# Altium schematic symbol library 0419.SCHLIB: 50 symbols
Pins are listed as number, name and electrical type; pins without a type are passive.

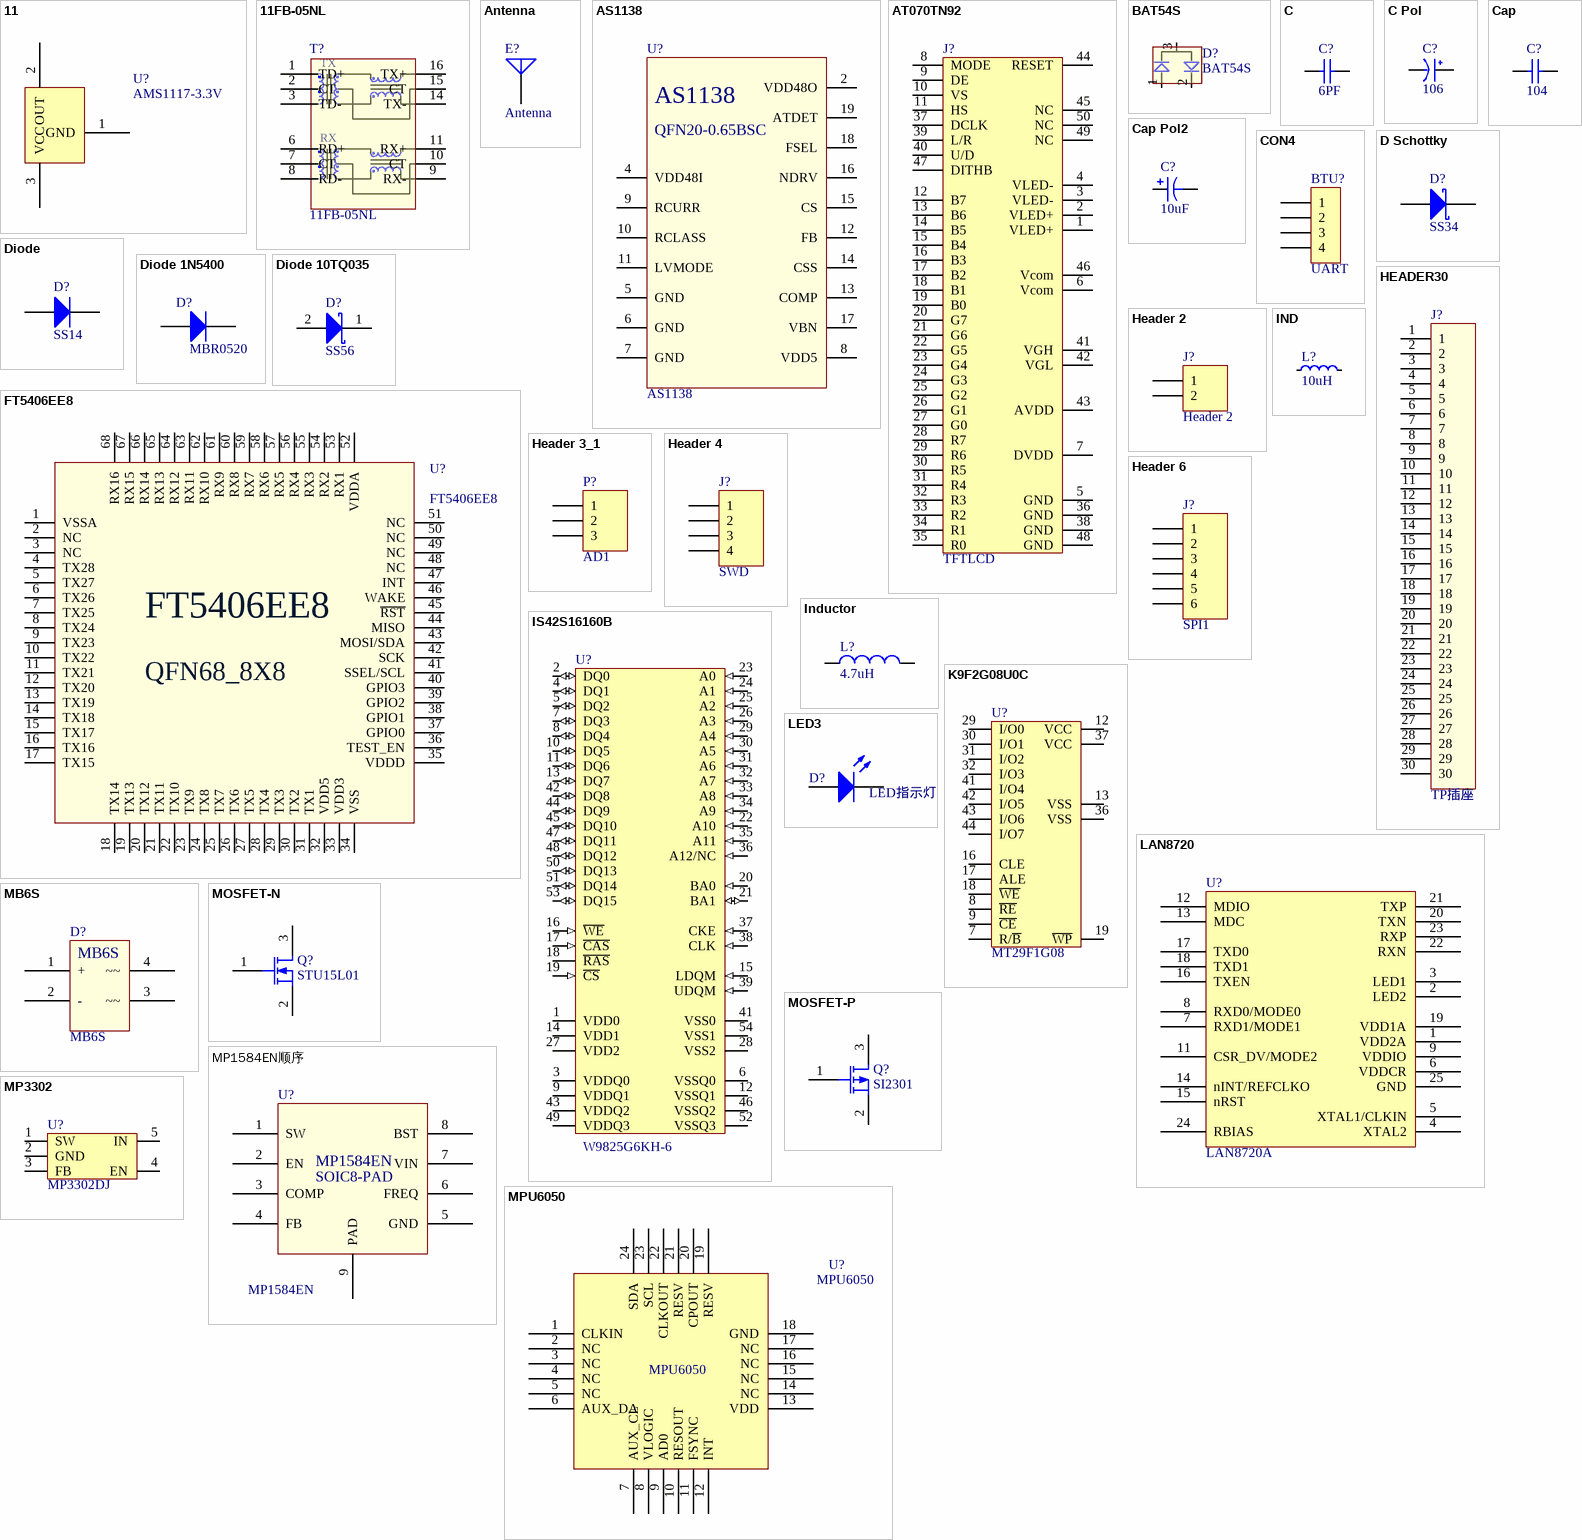
[diagram p0: symbols 11 to MPU6050]

## 11
designator U?, comment AMS1117-3.3V
footprint SOT-223
pins: 1 GND, 2 OUT, 3 VCC

## 11FB-05NL
designator T?
footprint SOIC16 (SOIC, 16-Leads, Body 10.30x7.50mm, Pitch 1.27mm, IPC Medium Density)
pins: 1 TD+, 2 CT, 3 TD-, 6 RD+, 7 CT, 8 RD-, 9 RX-, 10 CT, 11 RX+, 14 TX-, 15 CT, 16 TX+
text: TX; RX

## Antenna
designator E?
Generic Antenna; Published: 24-Mar-1999; LatestRevisionDate: 17-Jul-2002; LatestRevisionNote: Re-released for DXP Platform.; PackageReference: PIN1; Publisher: Altium Limited
footprint ANT2.4G2
pins: 1 A

## AS1138
designator U?
footprint QFN20-0.65BSC-PAD
pins: 2 VDD48O, 4 VDD48I, 5 GND, 6 GND, 7 GND, 8 VDD5, 9 RCURR, 10 RCLASS, 11 LVMODE, 12 FB, 13 COMP, 14 CSS, 15 CS, 16 NDRV, 17 VBN, 18 FSEL, 19 ATDET
text: QFN20-0.65BSC

## AT070TN92
designator J?, comment TFTLCD
7' TFTLCD
footprint FPC-TOP50
pins: 1 VLED+, 2 VLED+, 3 VLED-, 4 VLED-, 5 GND, 6 Vcom, 7 DVDD, 8 MODE, 9 DE, 10 VS, 11 HS, 12 B7, 13 B6, 14 B5, 15 B4, 16 B3, 17 B2, 18 B1, 19 B0, 20 G7, 21 G6, 22 G5, 23 G4, 24 G3, 25 G2, 26 G1, 27 G0, 28 R7, 29 R6, 30 R5, 31 R4, 32 R3, 33 R2, 34 R1, 35 R0, 36 GND, 37 DCLK, 38 GND, 39 L/R, 40 U/D, 41 VGH, 42 VGL, 43 AVDD, 44 RESET, 45 NC, 46 Vcom, 47 DITHB, 48 GND, 49 NC, 50 NC
2 alternate drawings of the same symbol

## BAT54S
designator D?
双肖特基二极管
footprint SOT-23 (SOT-23; 3 Leads; Body 3.0 x 2.5 mm, inc. leads (LxW max))
pins: 1, 2, 3

## C
designator C?, comment 6PF
电容; Published: 8-Jun-2000; LatestRevisionDate: 17-Jul-2002; LatestRevisionNote: Re-released for DXP Platform.; PackageReference: RAD-0.3; Publisher: Altium Limited; PackageDescription: Radial Cap, Thru-Hole; 2 Leads; 0.3 in Pin Spacing
footprint 0603T
pins: 1, 2

## C Pol
designator C?, comment 106
footprint 0603T
pins: 1 VCC, 2 GND

## Cap
designator C?, comment 104
Capacitor; Published: 8-Jun-2000; LatestRevisionDate: 17-Jul-2002; LatestRevisionNote: Re-released for DXP Platform.; PackageReference: RAD-0.3; Publisher: Altium Limited; PackageDescription: Radial Cap, Thru-Hole; 2 Leads; 0.3 in Pin Spacing; Value: 104
simulation model CAP (Capacitor)
signal-integrity model Cap
footprint 0603T
pins: 1, 2

## Cap Pol2
designator C?, comment 10uF
Polarized Capacitor (Axial); Published: 8-Jun-2000; LatestRevisionDate: 17-Jul-2002; LatestRevisionNote: Re-released for DXP Platform.; PackageReference: POLAR0.8; Publisher: Altium Limited; PackageDescription: Polarized Capacitor; 2 Leads; Value: 10uF
simulation model CAP (Capacitor)
signal-integrity model Cap Pol
footprint CAP-SIP
pins: 1, 2
1 alternate drawing of the same symbol

## CON4
designator BTU?, comment UART
Connector
footprint HDR1X4 (Connector; Header; 4 Position)
pins: 1, 2, 3, 4

## D Schottky
designator D?, comment SS34
Schottky Diode; Published: 8-Jun-2000; LatestRevisionDate: 17-Jul-2002; LatestRevisionNote: Re-released for DXP Platform.; PackageReference: SMB; Publisher: Altium Limited; PackageDescription: DO-214-AA/SMB; 2 C-Bend Leads; Body 5.3 x 3.6 mm, inc. leads (LxW); Code_JEDEC: DO-214-AA
footprint SMB (DO-214-AA/SMB; 2 C-Bend Leads; Body 5.3 x 3.6 mm, inc. leads (LxW))
simulation model SKYDIODE (Diode)
signal-integrity model D Schottky
pins: 1 A, 2 K

## Diode
designator D?, comment SS14
Default Diode; Published: 8-Jun-2000; LatestRevisionDate: 17-Jul-2002; LatestRevisionNote: Re-released for DXP Platform.; PackageVersion: Sep-1996; PackageReference: SMC; Publisher: Altium Limited; PackageDescription: DO-214-AB/SMC; 2 C-Bend Leads; Body 7.9 x 5.9 mm, inc. leads (LxW); Code_JEDEC: DO-214-AB
footprint SMC (DO-214-AB/SMC; 2 C-Bend Leads; Body 7.9 x 5.9 mm, inc. leads (LxW))
simulation model DIODE (Diode)
signal-integrity model Diode
pins: 1 A, 2 K

## Diode 1N5400
designator D?, comment MBR0520
3 Amp General Purpose Rectifier; Published: 8-Jun-2000; LatestRevisionDate: 17-Jul-2002; LatestRevisionNote: Re-released for DXP Platform.; DatasheetVersion: 1998; PackageVersion: Aug-1999; PackageReference: DO-201AD; Publisher: Altium Limited; PackageDescription: Diode, Axial; Body 9.5 x 5.6 mm (LxDia. max), Lead Dia. 1.32 mm (max); ComponentLink1Description: Manufacturer Link; ComponentLink1URL: http://www.fairchildsemi.com/; ComponentLink2Description: Datasheet; ComponentLink2URL: http://www.fairchildsemi.com/ds/1N%2F1N5400.pdf
footprint SOD-123
simulation model 1N5400 (DIODE)
signal-integrity model 1N5400
pins: 1 A, 2 K

## Diode 10TQ035
designator D?, comment SS56
Schottky Rectifier; Note: Terminal 2 is the TAB and is electrically connected to the cathode; Published: 8-Jun-2000; LatestRevisionDate: 17-Jul-2002; LatestRevisionNote: Re-released for DXP Platform.; DatasheetVersion: PD-2.057B; PackageVersion: Feb-1998; PackageReference: TO-220AC; Publisher: Altium Limited; PackageDescription: TO, Thru-Hole, Vertical, Heatsink Mounted; 3 In-Line Leads (1 Absent); Pitch 2.54 mm; ComponentLink1Description: Manufacturer Link; ComponentLink1URL: http://www.irf.com/; ComponentLink2Description: Datasheet; ComponentLink2URL: http://www.irf.com/product-info/datasheets/data/10tq.pdf
footprint SMC (DO-214-AB/SMC; 2 C-Bend Leads; Body 7.9 x 5.9 mm, inc. leads (LxW))
simulation model 10TQ035 (DIODE)
pins: 1 K, 2 A

## FT5406EE8
designator U?
footprint QFN68-0.4mm
pins: 1 VSSA, 2 NC, 3 NC, 4 TX28, 5 TX27, 6 TX26, 7 TX25, 8 TX24, 9 TX23, 10 TX22, 11 TX21, 12 TX20, 13 TX19, 14 TX18, 15 TX17, 16 TX16, 17 TX15, 18 TX14, 19 TX13, 20 TX12, 21 TX11, 22 TX10, 23 TX9, 24 TX8, 25 TX7, 26 TX6, 27 TX5, 28 TX4, 29 TX3, 30 TX2, 31 TX1, 32 VDD5, 33 VDD3, 34 VSS, 35 VDDD, 36 TEST_EN, 37 GPIO0, 38 GPIO1, 39 GPIO2, 40 GPIO3, 41 SSEL/SCL, 42 SCK, 43 MOSI/SDA, 44 MISO, 45 ~{RST}, 46 WAKE, 47 INT, 48 NC, 49 NC, 50 NC, 51 NC, 52 VDDA, 53 RX1, 54 RX2, 55 RX3, 56 RX4, 57 RX5, 58 RX6, 59 RX7, 60 RX8, 61 RX9, 62 RX10, 63 RX11, 64 RX12, 65 RX13, 66 RX14, 67 RX15, 68 RX16
text: QFN68_8X8

## HEADER30
designator J?, comment TP插座
footprint FPC-TOP30
pins: 1, 2, 3, 4, 5, 6, 7, 8, 9, 10, 11, 12, 13, 14, 15, 16, 17, 18, 19, 20, 21, 22, 23, 24, 25, 26, 27, 28, 29, 30

## Header 2
designator J?
Header, 2-Pin; LatestRevisionDate: 17-Jul-2002; LatestRevisionNote: Re-released for DXP Platform.; Publisher: Altium Limited
footprint HDR1X2
signal-integrity model Connector
footprint HDR1X2 (Connector; Header; 2 Position)
pins: 1, 2

## Header 3_1
designator P?, comment AD1
Header, 3-Pin; LatestRevisionDate: 17-Jul-2002; LatestRevisionNote: Re-released for DXP Platform.; Publisher: Altium Limited
footprint HDR1X3 (Connector; Header; 3 Position)
signal-integrity model Connector
pins: 1, 2, 3

## Header 4
designator J?, comment SWD
Header, 4-Pin; LatestRevisionDate: 17-Jul-2002; LatestRevisionNote: Re-released for DXP Platform.; Publisher: Altium Limited
footprint HDR1X4 (Connector; Header; 4 Position)
signal-integrity model Connector
pins: 1, 2, 3, 4

## Header 6
designator J?, comment SPI1
Header, 6-Pin; LatestRevisionDate: 17-Jul-2002; LatestRevisionNote: Re-released for DXP Platform.; Publisher: Altium Limited
footprint HDR1X6 (Connector; Header; 6 Position)
signal-integrity model Connector
pins: 1, 2, 3, 4, 5, 6

## IND
designator L?, comment 10uH
Chip inductor, IDC,min = 50 mA, ±20%; Part Number: L0603-10μ; Manufacturer: Taiyo Yuden; Manufacturer Part Number: LBMF1608T100K; 2nd source part number: 178-6105; Note: LBMF1608T100K 10μH 80mA 0603; Artikkelnr Noca: 33029314; Artikkelnr Simpro: N.A.; Datasheet: http://www.yuden.co.jp/ut/product/pdf/elb2_e.pdf; LatestRevisionDate: 2012-09-19; Pin Count: 2; Publisher: Nordic Semiconductor; Published: 2010-02-24; Value: 10uH; Supplier: Digi-Key; Supplier part number: 587-1714-1-ND; 2nd source Supplier: Farnell; Footprint Doc: 0603
footprint CL-0805
pins: 1, 2

## Inductor
designator L?  value 4.7uH  (hidden comment: Inductor)
Code_IEC: 1005; Published: 8-Jun-2000; LatestRevisionDate: 29-May-2009; LatestRevisionNote: IPC-7351 Footprint Added.; PackageReference: 0402-A; Publisher: Altium Limited; PackageDescription: Chip Inductor; Code_JEITA: 0402
footprint L10*10
pins: 1, 2

## IS42S16160B
designator U?, comment W9825G6KH-6
32MB SDRAM
footprint TSOP54
pins: 1 VDD0 (power), 2 DQ0 (io), 3 VDDQ0 (power), 4 DQ1 (io), 5 DQ2 (io), 6 VSSQ0 (power), 7 DQ3 (io), 8 DQ4 (io), 9 VDDQ1 (power), 10 DQ5 (io), 11 DQ6 (io), 12 VSSQ1 (power), 13 DQ7 (io), 14 VDD1 (power), 15 LDQM (in), 16 ~{WE} (in), 17 ~{CAS} (in), 18 ~{RAS}, 19 ~{CS} (in), 20 BA0 (in), 21 BA1 (io), 22 A10 (in), 23 A0 (in), 24 A1 (in), 25 A2 (in), 26 A3 (in), 27 VDD2 (power), 28 VSS2 (power), 29 A4 (in), 30 A5 (in), 31 A6 (in), 32 A7 (in), 33 A8 (in), 34 A9 (in), 35 A11 (in), 36 A12/NC (in), 37 CKE (in), 38 CLK (in), 39 UDQM (in), 41 VSS0 (power), 42 DQ8 (io), 43 VDDQ2 (power), 44 DQ9 (io), 45 DQ10 (io), 46 VSSQ2 (power), 47 DQ11 (io), 48 DQ12 (io), 49 VDDQ3 (power), 50 DQ13 (io), 51 DQ14 (io), 52 VSSQ3 (power), 53 DQ15 (io), 54 VSS1 (power)
2 alternate drawings of the same symbol

## K9F2G08U0C
designator U?, comment MT29F1G08
256MB NAND FLASH
footprint TSOP48
pins: 7 R/~{B}, 8 ~{RE}, 9 ~{CE}, 12 VCC, 13 VSS, 16 CLE, 17 ALE, 18 ~{WE}, 19 ~{WP}, 29 I/O0, 30 I/O1, 31 I/O2, 32 I/O3, 36 VSS, 37 VCC, 41 I/O4, 42 I/O5, 43 I/O6, 44 I/O7

## LAN8720
designator U?, comment LAN8720A
footprint QFN24
pins: 1 VDD2A, 2 LED2, 3 LED1, 4 XTAL2, 5 XTAL1/CLKIN, 6 VDDCR, 7 RXD1/MODE1, 8 RXD0/MODE0, 9 VDDIO, 11 CSR_DV/MODE2, 12 MDIO, 13 MDC, 14 nINT/REFCLKO, 15 nRST, 16 TXEN, 17 TXD0, 18 TXD1, 19 VDD1A, 20 TXN, 21 TXP, 22 RXN, 23 RXP, 24 RBIAS, 25 GND

## LED3
designator D?, comment LED指示灯
Typical BLUE SiC LED; Published: 8-Jun-2000; LatestRevisionDate: 17-Dec-2003; LatestRevisionNote: PCB Footprint replaced.; DatasheetVersion: 16-Apr-2002; PackageVersion: 16-Apr-2002; PackageReference: 3.5X2.8X1.9; Publisher: Altium Limited; PackageDescription: SM LED; 2 C-Bend Leads; Body 3.5 x 2.8 x 1.9 mm, inc leads (LxWxH typ)
simulation model LED3 (Diode)
signal-integrity model LED
footprint 0603T
pins: 1 A, 2 K

## MB6S
designator D?
footprint SOP-4
pins: 1 +, 2 -, 3 ~~, 4 ~~

## MOSFET-N
designator Q?, comment STU15L01
N-Channel MOSFET; Published: 8-Jun-2000; LatestRevisionDate: 17-Jul-2002; LatestRevisionNote: Re-released for DXP Platform.; PackageVersion: 1995/1996; PackageReference: E3; Publisher: Altium Limited; PackageDescription: TO, Flat Index; 3 In-Line, Axial Leads; Body Dia. 4.6mm; Lead Dia. 0.5 mm (max)
footprint TO-252AA(D-PAK)
simulation model NMOS (MOSFET-N)
pins: 1 G, 2 S, 3 D

## MOSFET-P
designator Q?, comment SI2301
P-Channel MOSFET; Published: 8-Jun-2000; LatestRevisionDate: 17-Jul-2002; LatestRevisionNote: Re-released for DXP Platform.; PackageVersion: 1995/1996; PackageReference: E3; Publisher: Altium Limited; PackageDescription: TO, Flat Index; 3 In-Line, Axial Leads; Body Dia. 4.6mm; Lead Dia. 0.5 mm (max)
footprint SOT-23
simulation model PMOS (MOSFET-P)
pins: 1 G, 2 S, 3 D

## MP1584EN顺序
designator U?, comment MP1584EN
footprint SOIC8-PAD (SOIC, 8-Leads, Body 4.90x3.90mm, Pitch 1.27mm, IPC Medium Density)
pins: 1 SW, 2 EN, 3 COMP, 4 FB, 5 GND, 6 FREQ, 7 VIN, 8 BST, 9 PAD
text: SOIC8-PAD

## MP3302
designator U?, comment MP3302DJ
LCD背光IC
footprint SOT-23-5
pins: 1 SW, 2 GND, 3 FB, 4 EN, 5 IN

## MPU6050
designator U?
footprint QFN20-0.5BSC-PAD
pins: 1 CLKIN, 2 NC, 3 NC, 4 NC, 5 NC, 6 AUX_DA, 7 AUX_CL, 8 VLOGIC, 9 AD0, 10 RESOUT, 11 FSYNC, 12 INT, 13 VDD, 14 NC, 15 NC, 16 NC, 17 NC, 18 GND, 19 RESV, 20 CPOUT, 21 RESV, 22 CLKOUT, 23 SCL, 24 SDA

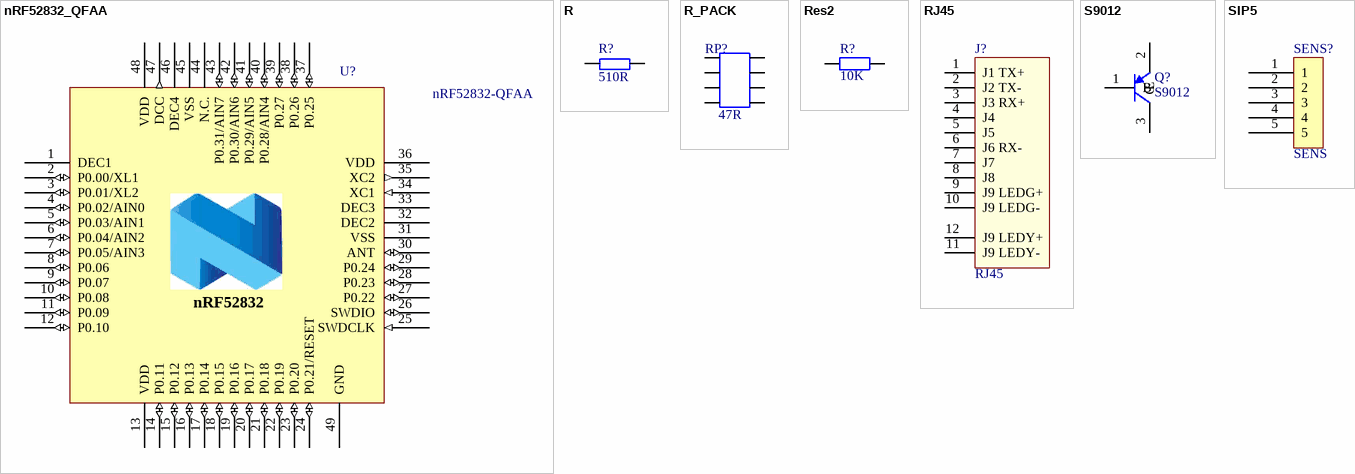
[diagram p1: symbols nRF52832_QFAA to SIP5]

## nRF52832_QFAA
designator U?, comment nRF52832-QFAA
Multi-protocol Bluetooth Low Energy, ANT and 2.4GHz proprietary system-on-chip; Manufacturer: Nordic Semiconductor; Artikkelnr Noca: N.A.; Part Number: nRF52832-QFAA; Manufacturer Part Number: nRF52832-QFAA; Datasheet: *; LatestRevisionDate: 2014-11-26; Pin Count: 48; Publisher: Nordic Semiconductor; Published: 2014-11-26; Value: nRF52832-QFAA; Note: *; Supplier: Nordic Semiconductor; Supplier part number: *; 2nd source Supplier: *; 2nd source part number: *; Footprint Doc: QFN-48; Artikkelnr Simpro: N.A.
footprint QFN48
pins: 1 DEC1 (power), 2 P0.00/XL1 (io), 3 P0.01/XL2 (io), 4 P0.02/AIN0 (io), 5 P0.03/AIN1 (io), 6 P0.04/AIN2 (io), 7 P0.05/AIN3 (io), 8 P0.06 (io), 9 P0.07 (io), 10 P0.08 (io), 11 P0.09 (io), 12 P0.10 (io), 13 VDD (power), 14 P0.11 (io), 15 P0.12 (io), 16 P0.13 (io), 17 P0.14 (io), 18 P0.15 (io), 19 P0.16 (io), 20 P0.17 (io), 21 P0.18 (io), 22 P0.19 (io), 23 P0.20 (io), 24 P0.21/RESET (io), 25 SWDCLK (in), 26 SWDIO (io), 27 P0.22 (io), 28 P0.23 (io), 29 P0.24 (io), 30 ANT (io), 31 VSS (power), 32 DEC2 (power), 33 DEC3 (power), 34 XC1 (in), 35 XC2 (out), 36 VDD (power), 37 P0.25 (io), 38 P0.26 (io), 39 P0.27 (io), 40 P0.28/AIN4 (io), 41 P0.29/AIN5 (io), 42 P0.30/AIN6 (io), 43 P0.31/AIN7 (io), 44 N.C. (power), 45 VSS (power), 46 DEC4 (power), 47 DCC (out), 48 VDD (power), 49 GND
text: nRF52832

## R
designator R?, comment 510R
footprint 0603T
pins: 1, 2

## R_PACK
designator RP?, comment 47R
排阻
footprint 8P4R_0603
pins: 1, 2, 3, 4, 5, 6, 7, 8

## Res2
designator R?, comment value 10K  (hidden comment: Res)
Resistor; Published: 8-Jun-2000; LatestRevisionDate: 17-Jul-2002; LatestRevisionNote: Re-released for DXP Platform.; PackageReference: AXIAL-0.4; Publisher: Altium Limited; PackageDescription: Axial Device, Thru-Hole; 2 Leads; 0.4 in Pin Spacing
simulation model RESISTOR (Resistor)
signal-integrity model Res
footprint 0603T
pins: 1, 2

## RJ45
designator J?
footprint RJ45
pins: 1 J1 TX+, 2 J2 TX-, 3 J3 RX+, 4 J4, 5 J5, 6 J6 RX-, 7 J7, 8 J8, 9 J9 LEDG+, 10 J9 LEDG-, 11 J9 LEDY-, 12 J9 LEDY+

## S9012
designator Q?
NPN General Purpose Amplifier; Published: 8-Jun-2000; LatestRevisionDate: 15-Jan-2003; LatestRevisionNote: PCB Footprint 'BCY-W3/D4.7' replaced; DatasheetVersion: 1997; PackageVersion: Sep-1998; PackageReference: TO-92A; Publisher: Altium Limited; PackageDescription: TO, Flat Index; 3 In-Line, Axial Leads; Body Dia. 4.5mm; Leads 0.51 x 0.48 mm (max); ComponentLink1Description: Manufacturer Link; ComponentLink1URL: http://www.fairchildsemi.com/; ComponentLink2Description: Datasheet; ComponentLink2URL: http://www.fairchildsemi.com/ds/2N%2F2N3904.pdf
footprint SOT-23
simulation model 2N3904 (NPN)
signal-integrity model 2N3904
pins: 1 B, 2 E, 3 C

## SIP5
designator SENS?, comment SENS
footprint 传感器接口
pins: 1, 2, 3, 4, 5

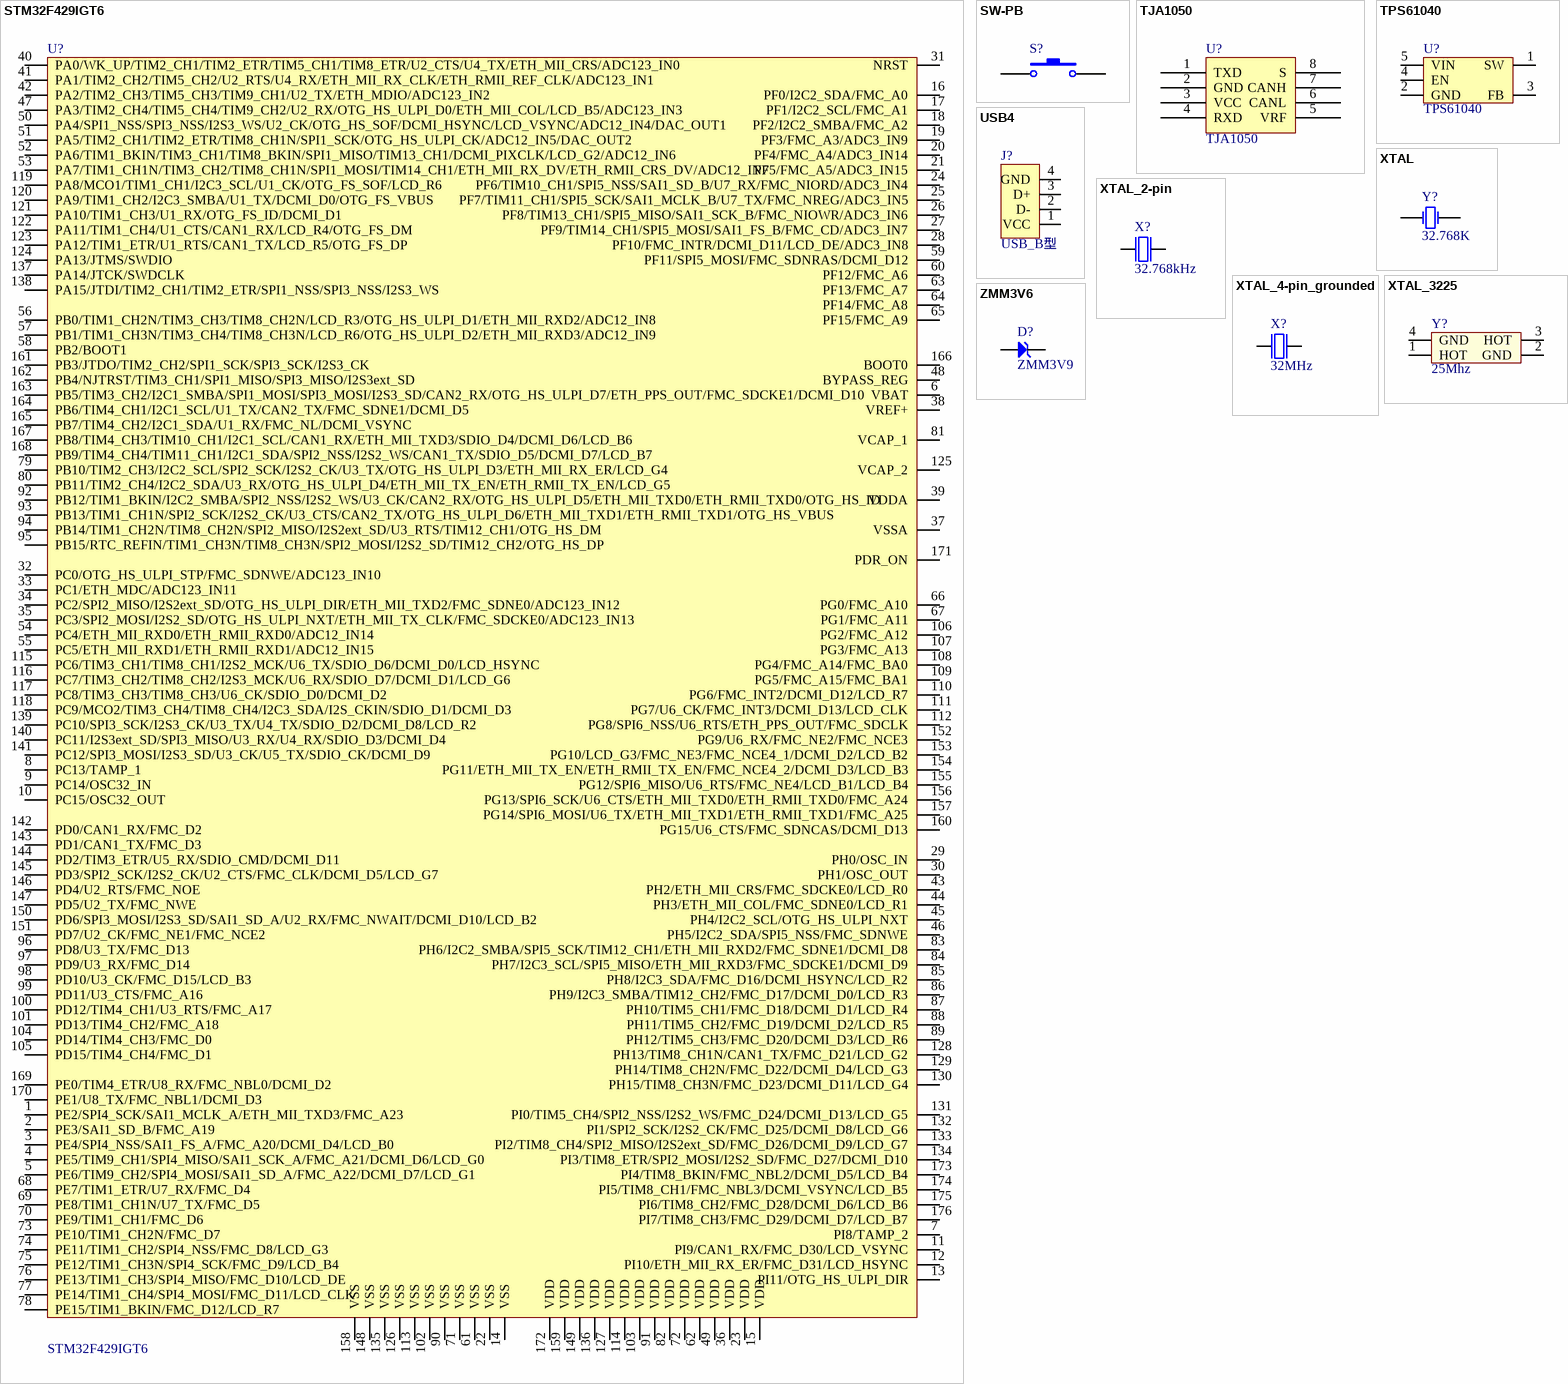
[diagram p2: symbols STM32F429IGT6 to ZMM3V6]

## STM32F429IGT6
designator U?
footprint LQFP176 (TSQFP, 176-Leads, Body 26.1x26.1mm (max), Pitch 0.50mm, IPC Medium Density)
pins: 1 PE2/SPI4_SCK/SAI1_MCLK_A/ETH_MII_TXD3/FMC_A23, 2 PE3/SAI1_SD_B/FMC_A19, 3 PE4/SPI4_NSS/SAI1_FS_A/FMC_A20/DCMI_D4/LCD_B0, 4 PE5/TIM9_CH1/SPI4_MISO/SAI1_SCK_A/FMC_A21/DCMI_D6/LCD_G0, 5 PE6/TIM9_CH2/SPI4_MOSI/SAI1_SD_A/FMC_A22/DCMI_D7/LCD_G1, 6 VBAT, 7 PI8/TAMP_2, 8 PC13/TAMP_1, 9 PC14/OSC32_IN, 10 PC15/OSC32_OUT, 11 PI9/CAN1_RX/FMC_D30/LCD_VSYNC, 12 PI10/ETH_MII_RX_ER/FMC_D31/LCD_HSYNC, 13 PI11/OTG_HS_ULPI_DIR, 14 VSS, 15 VDD, 16 PF0/I2C2_SDA/FMC_A0, 17 PF1/I2C2_SCL/FMC_A1, 18 PF2/I2C2_SMBA/FMC_A2, 19 PF3/FMC_A3/ADC3_IN9, 20 PF4/FMC_A4/ADC3_IN14, 21 PF5/FMC_A5/ADC3_IN15, 22 VSS, 23 VDD, 24 PF6/TIM10_CH1/SPI5_NSS/SAI1_SD_B/U7_RX/FMC_NIORD/ADC3_IN4, 25 PF7/TIM11_CH1/SPI5_SCK/SAI1_MCLK_B/U7_TX/FMC_NREG/ADC3_IN5, 26 PF8/TIM13_CH1/SPI5_MISO/SAI1_SCK_B/FMC_NIOWR/ADC3_IN6, 27 PF9/TIM14_CH1/SPI5_MOSI/SAI1_FS_B/FMC_CD/ADC3_IN7, 28 PF10/FMC_INTR/DCMI_D11/LCD_DE/ADC3_IN8, 29 PH0/OSC_IN, 30 PH1/OSC_OUT, 31 NRST, 32 PC0/OTG_HS_ULPI_STP/FMC_SDNWE/ADC123_IN10, 33 PC1/ETH_MDC/ADC123_IN11, 34 PC2/SPI2_MISO/I2S2ext_SD/OTG_HS_ULPI_DIR/ETH_MII_TXD2/FMC_SDNE0/ADC123_IN12, 35 PC3/SPI2_MOSI/I2S2_SD/OTG_HS_ULPI_NXT/ETH_MII_TX_CLK/FMC_SDCKE0/ADC123_IN13, 36 VDD, 37 VSSA, 38 VREF+, 39 VDDA, 40 PA0/WK_UP/TIM2_CH1/TIM2_ETR/TIM5_CH1/TIM8_ETR/U2_CTS/U4_TX/ETH_MII_CRS/ADC123_IN0, 41 PA1/TIM2_CH2/TIM5_CH2/U2_RTS/U4_RX/ETH_MII_RX_CLK/ETH_RMII_REF_CLK/ADC123_IN1, 42 PA2/TIM2_CH3/TIM5_CH3/TIM9_CH1/U2_TX/ETH_MDIO/ADC123_IN2, 43 PH2/ETH_MII_CRS/FMC_SDCKE0/LCD_R0, 44 PH3/ETH_MII_COL/FMC_SDNE0/LCD_R1, 45 PH4/I2C2_SCL/OTG_HS_ULPI_NXT, 46 PH5/I2C2_SDA/SPI5_NSS/FMC_SDNWE, 47 PA3/TIM2_CH4/TIM5_CH4/TIM9_CH2/U2_RX/OTG_HS_ULPI_D0/ETH_MII_COL/LCD_B5/ADC123_IN3, 48 BYPASS_REG, 49 VDD, 50 PA4/SPI1_NSS/SPI3_NSS/I2S3_WS/U2_CK/OTG_HS_SOF/DCMI_HSYNC/LCD_VSYNC/ADC12_IN4/DAC_OUT1, 51 PA5/TIM2_CH1/TIM2_ETR/TIM8_CH1N/SPI1_SCK/OTG_HS_ULPI_CK/ADC12_IN5/DAC_OUT2, 52 PA6/TIM1_BKIN/TIM3_CH1/TIM8_BKIN/SPI1_MISO/TIM13_CH1/DCMI_PIXCLK/LCD_G2/ADC12_IN6, 53 PA7/TIM1_CH1N/TIM3_CH2/TIM8_CH1N/SPI1_MOSI/TIM14_CH1/ETH_MII_RX_DV/ETH_RMII_CRS_DV/ADC12_IN7, 54 PC4/ETH_MII_RXD0/ETH_RMII_RXD0/ADC12_IN14, 55 PC5/ETH_MII_RXD1/ETH_RMII_RXD1/ADC12_IN15, 56 PB0/TIM1_CH2N/TIM3_CH3/TIM8_CH2N/LCD_R3/OTG_HS_ULPI_D1/ETH_MII_RXD2/ADC12_IN8, 57 PB1/TIM1_CH3N/TIM3_CH4/TIM8_CH3N/LCD_R6/OTG_HS_ULPI_D2/ETH_MII_RXD3/ADC12_IN9, 58 PB2/BOOT1, 59 PF11/SPI5_MOSI/FMC_SDNRAS/DCMI_D12, 60 PF12/FMC_A6, 61 VSS, 62 VDD, 63 PF13/FMC_A7, 64 PF14/FMC_A8, 65 PF15/FMC_A9, 66 PG0/FMC_A10, 67 PG1/FMC_A11, 68 PE7/TIM1_ETR/U7_RX/FMC_D4, 69 PE8/TIM1_CH1N/U7_TX/FMC_D5, 70 PE9/TIM1_CH1/FMC_D6, 71 VSS, 72 VDD, 73 PE10/TIM1_CH2N/FMC_D7, 74 PE11/TIM1_CH2/SPI4_NSS/FMC_D8/LCD_G3, 75 PE12/TIM1_CH3N/SPI4_SCK/FMC_D9/LCD_B4, 76 PE13/TIM1_CH3/SPI4_MISO/FMC_D10/LCD_DE, 77 PE14/TIM1_CH4/SPI4_MOSI/FMC_D11/LCD_CLK, 78 PE15/TIM1_BKIN/FMC_D12/LCD_R7, 79 PB10/TIM2_CH3/I2C2_SCL/SPI2_SCK/I2S2_CK/U3_TX/OTG_HS_ULPI_D3/ETH_MII_RX_ER/LCD_G4, 80 PB11/TIM2_CH4/I2C2_SDA/U3_RX/OTG_HS_ULPI_D4/ETH_MII_TX_EN/ETH_RMII_TX_EN/LCD_G5, 81 VCAP_1, 82 VDD, 83 PH6/I2C2_SMBA/SPI5_SCK/TIM12_CH1/ETH_MII_RXD2/FMC_SDNE1/DCMI_D8, 84 PH7/I2C3_SCL/SPI5_MISO/ETH_MII_RXD3/FMC_SDCKE1/DCMI_D9, 85 PH8/I2C3_SDA/FMC_D16/DCMI_HSYNC/LCD_R2, 86 PH9/I2C3_SMBA/TIM12_CH2/FMC_D17/DCMI_D0/LCD_R3, 87 PH10/TIM5_CH1/FMC_D18/DCMI_D1/LCD_R4, 88 PH11/TIM5_CH2/FMC_D19/DCMI_D2/LCD_R5, 89 PH12/TIM5_CH3/FMC_D20/DCMI_D3/LCD_R6, 90 VSS, 91 VDD, 92 PB12/TIM1_BKIN/I2C2_SMBA/SPI2_NSS/I2S2_WS/U3_CK/CAN2_RX/OTG_HS_ULPI_D5/ETH_MII_TXD0/ETH_RMII_TXD0/OTG_HS_ID, 93 PB13/TIM1_CH1N/SPI2_SCK/I2S2_CK/U3_CTS/CAN2_TX/OTG_HS_ULPI_D6/ETH_MII_TXD1/ETH_RMII_TXD1/OTG_HS_VBUS, 94 PB14/TIM1_CH2N/TIM8_CH2N/SPI2_MISO/I2S2ext_SD/U3_RTS/TIM12_CH1/OTG_HS_DM, 95 PB15/RTC_REFIN/TIM1_CH3N/TIM8_CH3N/SPI2_MOSI/I2S2_SD/TIM12_CH2/OTG_HS_DP, 96 PD8/U3_TX/FMC_D13, 97 PD9/U3_RX/FMC_D14, 98 PD10/U3_CK/FMC_D15/LCD_B3, 99 PD11/U3_CTS/FMC_A16, 100 PD12/TIM4_CH1/U3_RTS/FMC_A17, 101 PD13/TIM4_CH2/FMC_A18, 102 VSS, 103 VDD, 104 PD14/TIM4_CH3/FMC_D0, 105 PD15/TIM4_CH4/FMC_D1, 106 PG2/FMC_A12, 107 PG3/FMC_A13, 108 PG4/FMC_A14/FMC_BA0, 109 PG5/FMC_A15/FMC_BA1, 110 PG6/FMC_INT2/DCMI_D12/LCD_R7, 111 PG7/U6_CK/FMC_INT3/DCMI_D13/LCD_CLK, 112 PG8/SPI6_NSS/U6_RTS/ETH_PPS_OUT/FMC_SDCLK, 113 VSS, 114 VDD, 115 PC6/TIM3_CH1/TIM8_CH1/I2S2_MCK/U6_TX/SDIO_D6/DCMI_D0/LCD_HSYNC, 116 PC7/TIM3_CH2/TIM8_CH2/I2S3_MCK/U6_RX/SDIO_D7/DCMI_D1/LCD_G6, 117 PC8/TIM3_CH3/TIM8_CH3/U6_CK/SDIO_D0/DCMI_D2, 118 PC9/MCO2/TIM3_CH4/TIM8_CH4/I2C3_SDA/I2S_CKIN/SDIO_D1/DCMI_D3, 119 PA8/MCO1/TIM1_CH1/I2C3_SCL/U1_CK/OTG_FS_SOF/LCD_R6, 120 PA9/TIM1_CH2/I2C3_SMBA/U1_TX/DCMI_D0/OTG_FS_VBUS, 121 PA10/TIM1_CH3/U1_RX/OTG_FS_ID/DCMI_D1, 122 PA11/TIM1_CH4/U1_CTS/CAN1_RX/LCD_R4/OTG_FS_DM, 123 PA12/TIM1_ETR/U1_RTS/CAN1_TX/LCD_R5/OTG_FS_DP, 124 PA13/JTMS/SWDIO, 125 VCAP_2, 126 VSS, 127 VDD, 128 PH13/TIM8_CH1N/CAN1_TX/FMC_D21/LCD_G2, 129 PH14/TIM8_CH2N/FMC_D22/DCMI_D4/LCD_G3, 130 PH15/TIM8_CH3N/FMC_D23/DCMI_D11/LCD_G4, 131 PI0/TIM5_CH4/SPI2_NSS/I2S2_WS/FMC_D24/DCMI_D13/LCD_G5, 132 PI1/SPI2_SCK/I2S2_CK/FMC_D25/DCMI_D8/LCD_G6, 133 PI2/TIM8_CH4/SPI2_MISO/I2S2ext_SD/FMC_D26/DCMI_D9/LCD_G7, 134 PI3/TIM8_ETR/SPI2_MOSI/I2S2_SD/FMC_D27/DCMI_D10, 135 VSS, 136 VDD, 137 PA14/JTCK/SWDCLK, 138 PA15/JTDI/TIM2_CH1/TIM2_ETR/SPI1_NSS/SPI3_NSS/I2S3_WS, 139 PC10/SPI3_SCK/I2S3_CK/U3_TX/U4_TX/SDIO_D2/DCMI_D8/LCD_R2, 140 PC11/I2S3ext_SD/SPI3_MISO/U3_RX/U4_RX/SDIO_D3/DCMI_D4, 141 PC12/SPI3_MOSI/I2S3_SD/U3_CK/U5_TX/SDIO_CK/DCMI_D9, 142 PD0/CAN1_RX/FMC_D2, 143 PD1/CAN1_TX/FMC_D3, 144 PD2/TIM3_ETR/U5_RX/SDIO_CMD/DCMI_D11, 145 PD3/SPI2_SCK/I2S2_CK/U2_CTS/FMC_CLK/DCMI_D5/LCD_G7, 146 PD4/U2_RTS/FMC_NOE, 147 PD5/U2_TX/FMC_NWE, 148 VSS, 149 VDD, 150 PD6/SPI3_MOSI/I2S3_SD/SAI1_SD_A/U2_RX/FMC_NWAIT/DCMI_D10/LCD_B2, 151 PD7/U2_CK/FMC_NE1/FMC_NCE2, 152 PG9/U6_RX/FMC_NE2/FMC_NCE3, 153 PG10/LCD_G3/FMC_NE3/FMC_NCE4_1/DCMI_D2/LCD_B2, 154 PG11/ETH_MII_TX_EN/ETH_RMII_TX_EN/FMC_NCE4_2/DCMI_D3/LCD_B3, 155 PG12/SPI6_MISO/U6_RTS/FMC_NE4/LCD_B1/LCD_B4, 156 PG13/SPI6_SCK/U6_CTS/ETH_MII_TXD0/ETH_RMII_TXD0/FMC_A24, 157 PG14/SPI6_MOSI/U6_TX/ETH_MII_TXD1/ETH_RMII_TXD1/FMC_A25, 158 VSS, 159 VDD, 160 PG15/U6_CTS/FMC_SDNCAS/DCMI_D13, 161 PB3/JTDO/TIM2_CH2/SPI1_SCK/SPI3_SCK/I2S3_CK, 162 PB4/NJTRST/TIM3_CH1/SPI1_MISO/SPI3_MISO/I2S3ext_SD, 163 PB5/TIM3_CH2/I2C1_SMBA/SPI1_MOSI/SPI3_MOSI/I2S3_SD/CAN2_RX/OTG_HS_ULPI_D7/ETH_PPS_OUT/FMC_SDCKE1/DCMI_D10, 164 PB6/TIM4_CH1/I2C1_SCL/U1_TX/CAN2_TX/FMC_SDNE1/DCMI_D5, 165 PB7/TIM4_CH2/I2C1_SDA/U1_RX/FMC_NL/DCMI_VSYNC, 166 BOOT0, 167 PB8/TIM4_CH3/TIM10_CH1/I2C1_SCL/CAN1_RX/ETH_MII_TXD3/SDIO_D4/DCMI_D6/LCD_B6, 168 PB9/TIM4_CH4/TIM11_CH1/I2C1_SDA/SPI2_NSS/I2S2_WS/CAN1_TX/SDIO_D5/DCMI_D7/LCD_B7, 169 PE0/TIM4_ETR/U8_RX/FMC_NBL0/DCMI_D2, 170 PE1/U8_TX/FMC_NBL1/DCMI_D3, 171 PDR_ON, 172 VDD, 173 PI4/TIM8_BKIN/FMC_NBL2/DCMI_D5/LCD_B4, 174 PI5/TIM8_CH1/FMC_NBL3/DCMI_VSYNC/LCD_B5, 175 PI6/TIM8_CH2/FMC_D28/DCMI_D6/LCD_B6, 176 PI7/TIM8_CH3/FMC_D29/DCMI_D7/LCD_B7

## SW-PB
designator S?  (value not drawn)
Switch; Published: 24-Mar-1999; LatestRevisionDate: 17-Jul-2002; LatestRevisionNote: Re-released for DXP Platform.; PackageReference: SPST-2; Publisher: Altium Limited; PackageDescription: Switch; 2 Leads
footprint KEY3*6
pins: 1, 2

## TJA1050
designator U?
CAN总线收发器
footprint SO-8
pins: 1 TXD, 2 GND, 3 VCC, 4 RXD, 5 VRF, 6 CANL, 7 CANH, 8 S
2 alternate drawings of the same symbol

## TPS61040
designator U?
DC DC Step Up IC
footprint SOT-23-5
pins: 1 SW, 2 GND, 3 FB, 4 EN, 5 VIN

## USB4
designator J?, comment USB_B型
footprint USB2.5-2H4D (USB1.1, Type B_方口插座)
pins: 1 VCC, 2 D-, 3 D+, 4 GND

## XTAL
designator Y?, comment 32.768K
Crystal Oscillator; Published: 8-Jun-2000; LatestRevisionDate: 17-Jul-2002; LatestRevisionNote: Re-released for DXP Platform.; Publisher: Altium Limited
simulation model XTAL (Spice Subcircuit)
footprint 3215贴片晶振32.768K
pins: 1 OSC1, 2 OSC2

## XTAL_2-pin
designator X?, comment 32.768kHz
XTAL SMD 3215, 32.768kHz, Cl=9pF, Total Tol: ±50ppm; Part Number: XTAL_SMD3215_32.768kHz_9pF_General; Note: XTAL SMD 32.768kHz; Artikkelnr Noca: N.A.; Manufacturer: *; Manufacturer Part Number: *; Datasheet: *; LatestRevisionDate: 2016-08-19; Pin Count: 2; Publisher: Nordic Semiconductor; Published: 2016-08-19; Value: 32.768kHz; Supplier: *; Supplier part number: *; 2nd source Supplier: *; 2nd source part number: *; Footprint Doc: XTAL_3215; Artikkelnr Simpro: N.A.
footprint 3215贴片晶振32.768K
pins: 1 inp, 2 out

## XTAL_4-pin_grounded
designator X?, comment 32MHz
XTAL SMD 2016, 32MHz, Cl=8pF, Total Tol: ±40ppm; Part Number: XTAL_SMD2016_32MHz_8pF_General; Note: XTAL SMD 32.000MHz; Artikkelnr Noca: N.A.; Manufacturer: *; Manufacturer Part Number: *; Datasheet: *; LatestRevisionDate: 2016-08-19; Pin Count: 4; Publisher: Nordic Semiconductor; Published: 2016-08-19; Value: 32MHz; Supplier: *; Supplier part number: *; 2nd source Supplier: *; 2nd source part number: *; Footprint Doc: XTAL_2016; Artikkelnr Simpro: N.A.
footprint 3225晶振贴片
pins: 1 inp, 2 GND hidden to GND, 3 out, 4 GND hidden to GND

## XTAL_3225
designator Y?, comment 25Mhz
3225贴片无源晶振
footprint XTAL3225 (3.2mm*2.5mm)
pins: 1 HOT, 2 GND, 3 HOT, 4 GND

## ZMM3V6
designator D?, comment ZMM3V9
ZMM3V6封装为LL34
footprint DIODE_ZMMx (Footprint not found)
pins: 1, 2